# Altium integrated library TI Power Management Step-Down Regulator.IntLib: 559 symbols (part 20 of 35)
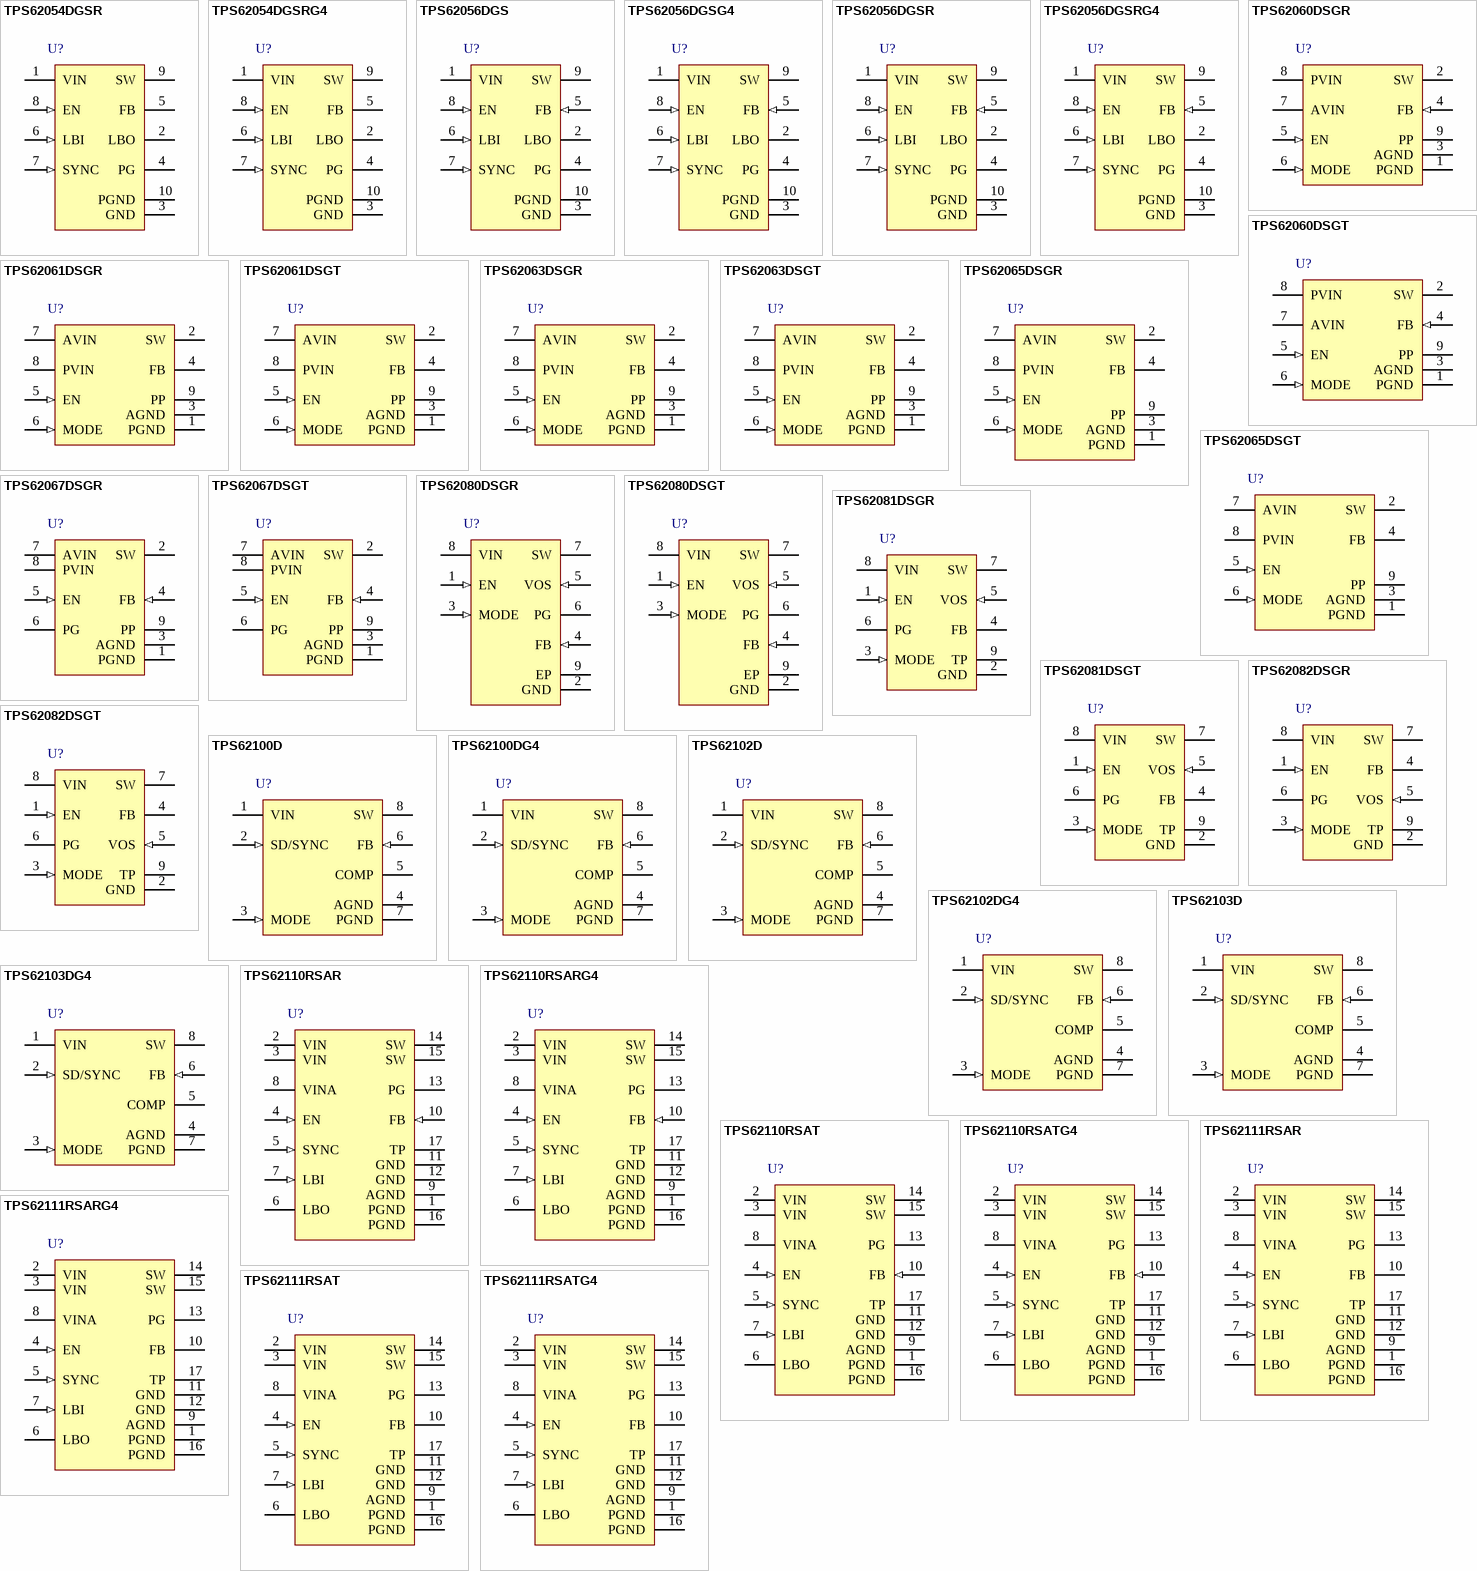
[diagram p38: symbols TPS62054DGSR to TPS62111RSATG4]

## TPS62110RSAT
designator U?
Buck Adjustable Regulator with 3.1 to 17 V Input and 1.2 to 16 V Output, -40 to 85 degC, 16-Pin QFN (RSA), Green (RoHS & no Sb/Br); Manufacturer: Texas Instruments; PartNumber: TPS62110RSAT; Duty Cycle(Max)(%): 100; Iout(Max)(A): 1.5; Iq(Typ)(mA): 0.02; Rating: Catalog; Regulated Outputs(#): 1; SubFamily: Step-Down Regulator; Switch Current Limit(Typ)(A): 2.4; Synchronous Rectification: TRUE; Vin(Max)(V): 17; Vin(Min)(V): 3.1; Vout(Max)(V): 16; Vout(Min)(V): 1.2; DatasheetVersion: SLVS585A; PackageVersion: revD, Jun-2011; PackageReference: RSA16-2700X2700TP; PackageDescription: 16-Pin Plastic Quad Flatpack No-Lead 0.65 mm Pitch; Supplier 1: Digi-Key; Supplier Part Number 1: 296-18580-2-ND; Supplier 2: Digi-Key; Supplier Part Number 2: 296-18580-1-ND; Supplier 3: Digi-Key; Supplier Part Number 3: 296-18580-6-ND; Supplier 4: Farnell; Supplier Part Number 4: 1412558; Supplier 5: Newark; Supplier Part Number 5: 52K2744; Supplier 6: Mouser; Supplier Part Number 6: 595-TPS62110RSAT; Eco-Plan: Green (RoHS & no Sb/Br); Topology: Buck; Mounting Technology: Surface Mount; Code_JEDEC: MO-220; ComponentLink1Description: Datasheet; ComponentLink1URL: http://www.ti.com/general/docs/lit/getliterature.tsp?genericPartNumber=TPS62110&fileType=pdf; ComponentLink2Description: Package Specification; ComponentLink2URL: http://www.ti.com/litv/pdf/mpqf145c; ComponentLink3Description: URL Link1; ComponentLink3URL: Samples URL:http://www.ti.com/product/tps62110#samples
footprint RSA16-2700X2700TP (QFN, 16-Leads, Body 4x4mm, Pitch 0.65mm, Thermal Pad 2.7x2.7mm, TI Recommended)
pins: 1 PGND (power) "Power ground. Connect all power grounds to this pin.", 2 VIN (power) "Supply voltage input (power stage).", 3 VIN (power) "Supply voltage input (power stage).", 4 EN (in) "Enable. A logic high enables the converter; logic low forces the device into shutdown mode reducing the supply current to less than 2 uA.", 5 SYNC (in) "Input for synchronization to external clock signal. Synchronizes the converter switching frequency to an external clock signal with CMOS level: SYNC = HIGH: Low-noise mode enabled, fixed frequency PWM operation is forced (See Datasheet)", 6 LBO (hiz) "Open-drain, low-battery output. This pin is pulled low if LBI is below its threshold.", 7 LBI (in) "Low-battery input.", 8 VINA (power) "Supply voltage input (support circuits).", 9 AGND (power) "Analog ground, connect to GND and PGND.", 10 FB (in) "Feedback pin for the fixed output voltage option. For the adjustable version, an external resistive divider is connected to this pin. The internal voltage divider is disabled for the adjustable version.", 11 GND (power) "Ground.", 12 GND (power) "Ground.", 13 PG (oc) "Power good comparator output. This is an open-drain output. A pullup resistor should be connected between PG and VOUT. The output goes active high when the output voltage is greater than 98.4% of the nominal value.", 14 SW (power) "Connect the inductor to this pin. This pin is the switch pin and connected to the drain of the internal power MOSFETS.", 15 SW (power) "Connect the inductor to this pin. This pin is the switch pin and connected to the drain of the internal power MOSFETS.", 16 PGND (power) "Power ground. Connect all power grounds to this pin.", 17 TP (power) "Connect to AGND."

## TPS62110RSATG4
designator U?
Buck Adjustable Regulator with 3.1 to 17 V Input and 1.2 to 16 V Output, -40 to 85 degC, 16-Pin QFN (RSA), Green (RoHS & no Sb/Br); Manufacturer: Texas Instruments; PartNumber: TPS62110RSATG4; Duty Cycle(Max)(%): 100; Iout(Max)(A): 1.5; Iq(Typ)(mA): 0.02; Rating: Catalog; Regulated Outputs(#): 1; SubFamily: Step-Down Regulator; Switch Current Limit(Typ)(A): 2.4; Synchronous Rectification: TRUE; Vin(Max)(V): 17; Vin(Min)(V): 3.1; Vout(Max)(V): 16; Vout(Min)(V): 1.2; DatasheetVersion: SLVS585A; PackageVersion: revD, Jun-2011; PackageReference: RSA16-2700X2700TP; PackageDescription: 16-Pin Plastic Quad Flatpack No-Lead 0.65 mm Pitch; Supplier 1: Digi-Key; Supplier Part Number 1: TPS62110RSATG4-ND; Supplier 2: Farnell; Supplier Part Number 2: 1180173; Supplier 3: Newark; Supplier Part Number 3: 26M4288; Supplier 4: Newark; Supplier Part Number 4: 61K1897; Supplier 5: Mouser; Supplier Part Number 5: 595-TPS62110RSATG4; Eco-Plan: Green (RoHS & no Sb/Br); Topology: Buck; Mounting Technology: Surface Mount; Code_JEDEC: MO-220; ComponentLink1Description: Datasheet; ComponentLink1URL: http://www.ti.com/general/docs/lit/getliterature.tsp?genericPartNumber=TPS62110&fileType=pdf; ComponentLink2Description: Package Specification; ComponentLink2URL: http://www.ti.com/litv/pdf/mpqf145c; ComponentLink3Description: URL Link1; ComponentLink3URL: Samples URL:http://www.ti.com/product/tps54611#samples
footprint RSA16-2700X2700TP (QFN, 16-Leads, Body 4x4mm, Pitch 0.65mm, Thermal Pad 2.7x2.7mm, TI Recommended)
pins: 1 PGND (power) "Power ground. Connect all power grounds to this pin.", 2 VIN (power) "Supply voltage input (power stage).", 3 VIN (power) "Supply voltage input (power stage).", 4 EN (in) "Enable. A logic high enables the converter; logic low forces the device into shutdown mode reducing the supply current to less than 2 uA.", 5 SYNC (in) "Input for synchronization to external clock signal. Synchronizes the converter switching frequency to an external clock signal with CMOS level: SYNC = HIGH: Low-noise mode enabled, fixed frequency PWM operation is forced (See Datasheet)", 6 LBO (hiz) "Open-drain, low-battery output. This pin is pulled low if LBI is below its threshold.", 7 LBI (in) "Low-battery input.", 8 VINA (power) "Supply voltage input (support circuits).", 9 AGND (power) "Analog ground, connect to GND and PGND.", 10 FB (in) "Feedback pin for the fixed output voltage option. For the adjustable version, an external resistive divider is connected to this pin. The internal voltage divider is disabled for the adjustable version.", 11 GND (power) "Ground.", 12 GND (power) "Ground.", 13 PG (oc) "Power good comparator output. This is an open-drain output. A pullup resistor should be connected between PG and VOUT. The output goes active high when the output voltage is greater than 98.4% of the nominal value.", 14 SW (power) "Connect the inductor to this pin. This pin is the switch pin and connected to the drain of the internal power MOSFETS.", 15 SW (power) "Connect the inductor to this pin. This pin is the switch pin and connected to the drain of the internal power MOSFETS.", 16 PGND (power) "Power ground. Connect all power grounds to this pin.", 17 TP (power) "Connect to AGND."

## TPS62111RSAR
designator U?
Buck Step Down Regulator with 3.1 to 17 V Input and 3.3 V Output, -40 to 85 degC, 16-Pin QFN (RSA), Green (RoHS & no Sb/Br); Manufacturer: Texas Instruments; PartNumber: TPS62111RSAR; Duty Cycle(Max)(%): 100; Iout(Max)(A): 1.5; Iq(Typ)(mA): 0.02; Preset Vout(V): 3.3; Rating: Catalog; Regulated Outputs(#): 1; SubFamily: Step-Down Regulator; Switch Current Limit(Typ)(A): 2.4; Synchronous Rectification: TRUE; Vin(Max)(V): 17; Vin(Min)(V): 3.1; DatasheetVersion: SLVS585A; PackageVersion: revD, Jun-2011; PackageReference: RSA16-2700X2700TP; PackageDescription: 16-Pin Plastic Quad Flatpack No-Lead 0.65 mm Pitch; Supplier 1: Digi-Key; Supplier Part Number 1: TPS62111RSAR-ND; Supplier 2: Newark; Supplier Part Number 2: 54K1738; Supplier 3: Mouser; Supplier Part Number 3: 595-TPS62111RSAR; Eco-Plan: Green (RoHS & no Sb/Br); Topology: Buck; Vout(Max)(V): 3.3; Vout(Min)(V): 3.3; Mounting Technology: Surface Mount; Code_JEDEC: MO-220; ComponentLink1Description: Datasheet; ComponentLink1URL: http://www.ti.com/general/docs/lit/getliterature.tsp?genericPartNumber=TPS62111&fileType=pdf; ComponentLink2Description: Package Specification; ComponentLink2URL: http://www.ti.com/litv/pdf/mpqf145c; ComponentLink3Description: URL Link1; ComponentLink3URL: Samples URL:http://www.ti.com/product/tps62111#samples
footprint RSA16-2700X2700TP (QFN, 16-Leads, Body 4x4mm, Pitch 0.65mm, Thermal Pad 2.7x2.7mm, TI Recommended)
pins: 1 PGND (power) "Power ground. Connect all power grounds to this pin.", 2 VIN (power) "Supply voltage input (power stage).", 3 VIN (power) "Supply voltage input (power stage).", 4 EN (in) "Enable. A logic high enables the converter; logic low forces the device into shutdown mode reducing the supply current to less than 2 µ A.", 5 SYNC (in) "Input for synchronization to external clock signal. Synchronizes the converter switching frequency to anexternal clock signal with CMOS level: SYNC = HIGH: Low-noise mode enabled, fixed frequency PWM operation is forced. (See Datasheet)", 6 LBO (hiz) "Open-drain, low-battery output. This pin is pulled low if LBI is below its threshold.", 7 LBI (in) "Low-battery input.", 8 VINA (power) "Supply voltage input (support circuits).", 9 AGND (power) "Analog ground, connect to GND and PGND.", 10 FB "Feedback pin for the fixed output voltage option. For the adjustable version, an external resistive divider is connected to this pin. The internal voltage divider is disabled for the adjustable version.", 11 GND (power) "Ground.", 12 GND (power) "Ground.", 13 PG (oc) "Power good comparator output. This is an open-drain output. A pullup resistor should be connected between PG and VOUT. The output goes active high when the output voltage is greater than 98.4% of the nominal value.", 14 SW (power) "Connect the inductor to this pin. This pin is the switch pin and connected to the drain of the internal power MOSFETS.", 15 SW (power) "Connect the inductor to this pin. This pin is the switch pin and connected to the drain of the internal power MOSFETS.", 16 PGND (power) "Power ground. Connect all power grounds to this pin.", 17 TP (power) "Connect to AGND."

## TPS62111RSARG4
designator U?
Buck Step Down Regulator with 3.1 to 17 V Input and 3.3 V Output, -40 to 85 degC, 16-Pin QFN (RSA), Green (RoHS & no Sb/Br); Manufacturer: Texas Instruments; PartNumber: TPS62111RSARG4; Duty Cycle(Max)(%): 100; Iout(Max)(A): 1.5; Iq(Typ)(mA): 0.02; Preset Vout(V): 3.3; Rating: Catalog; Regulated Outputs(#): 1; SubFamily: Step-Down Regulator; Switch Current Limit(Typ)(A): 2.4; Synchronous Rectification: TRUE; Vin(Max)(V): 17; Vin(Min)(V): 3.1; DatasheetVersion: SLVS585A; PackageVersion: revD, Jun-2011; PackageReference: RSA16-2700X2700TP; PackageDescription: 16-Pin Plastic Quad Flatpack No-Lead 0.65 mm Pitch; Supplier 1: Digi-Key; Supplier Part Number 1: TPS62111RSARG4-ND; Supplier 2: Newark; Supplier Part Number 2: 58K6948; Supplier 3: Mouser; Supplier Part Number 3: 595-TPS62111RSARG4; Eco-Plan: Green (RoHS & no Sb/Br); Topology: Buck; Vout(Max)(V): 3.3; Vout(Min)(V): 3.3; Mounting Technology: Surface Mount; Code_JEDEC: MO-220; ComponentLink1Description: Datasheet; ComponentLink1URL: http://www.ti.com/general/docs/lit/getliterature.tsp?genericPartNumber=TPS62111&fileType=pdf; ComponentLink2Description: Package Specification; ComponentLink2URL: http://www.ti.com/litv/pdf/mpqf145c; ComponentLink3Description: URL Link1; ComponentLink3URL: Samples URL:http://www.ti.com/product/tps62111#samples
footprint RSA16-2700X2700TP (QFN, 16-Leads, Body 4x4mm, Pitch 0.65mm, Thermal Pad 2.7x2.7mm, TI Recommended)
pins: 1 PGND (power) "Power ground. Connect all power grounds to this pin.", 2 VIN (power) "Supply voltage input (power stage).", 3 VIN (power) "Supply voltage input (power stage).", 4 EN (in) "Enable. A logic high enables the converter; logic low forces the device into shutdown mode reducing the supply current to less than 2 µ A.", 5 SYNC (in) "Input for synchronization to external clock signal. Synchronizes the converter switching frequency to anexternal clock signal with CMOS level: SYNC = HIGH: Low-noise mode enabled, fixed frequency PWM operation is forced. (See Datasheet)", 6 LBO (hiz) "Open-drain, low-battery output. This pin is pulled low if LBI is below its threshold.", 7 LBI (in) "Low-battery input.", 8 VINA (power) "Supply voltage input (support circuits).", 9 AGND (power) "Analog ground, connect to GND and PGND.", 10 FB "Feedback pin for the fixed output voltage option. For the adjustable version, an external resistive divider is connected to this pin. The internal voltage divider is disabled for the adjustable version.", 11 GND (power) "Ground.", 12 GND (power) "Ground.", 13 PG (oc) "Power good comparator output. This is an open-drain output. A pullup resistor should be connected between PG and VOUT. The output goes active high when the output voltage is greater than 98.4% of the nominal value.", 14 SW (power) "Connect the inductor to this pin. This pin is the switch pin and connected to the drain of the internal power MOSFETS.", 15 SW (power) "Connect the inductor to this pin. This pin is the switch pin and connected to the drain of the internal power MOSFETS.", 16 PGND (power) "Power ground. Connect all power grounds to this pin.", 17 TP (power) "Connect to AGND."

## TPS62111RSAT
designator U?
Buck Step Down Regulator with 3.1 to1 7 V Input and 3.3 V Output, -40 to 85 degC, 16-Pin QFN (RSA), Green (RoHS & no Sb/Br); Manufacturer: Texas Instruments; PartNumber: TPS62111RSAT; Duty Cycle(Max)(%): 100; Iout(Max)(A): 1.5; Iq(Typ)(mA): 0.02; Preset Vout(V): 3.3; Rating: Catalog; Regulated Outputs(#): 1; SubFamily: Step-Down Regulator; Switch Current Limit(Typ)(A): 2.4; Synchronous Rectification: TRUE; Vin(Max)(V): 17; Vin(Min)(V): 3.1; DatasheetVersion: SLVS585A; PackageVersion: revD, Jun-2011; PackageReference: RSA16-2700X2700TP; PackageDescription: 16-Pin Plastic Quad Flatpack No-Lead 0.65 mm Pitch; Supplier 1: Digi-Key; Supplier Part Number 1: 296-20670-2-ND; Supplier 2: Digi-Key; Supplier Part Number 2: 296-20670-1-ND; Supplier 3: Digi-Key; Supplier Part Number 3: 296-20670-6-ND; Supplier 4: Newark; Supplier Part Number 4: 54K1739; Supplier 5: Mouser; Supplier Part Number 5: 595-TPS62111RSAT; Eco-Plan: Green (RoHS & no Sb/Br); Topology: Buck; Vout(Max)(V): 3.3; Vout(Min)(V): 3.3; Mounting Technology: Surface Mount; Code_JEDEC: MO-220; ComponentLink1Description: Datasheet; ComponentLink1URL: http://www.ti.com/general/docs/lit/getliterature.tsp?genericPartNumber=TPS62111&fileType=pdf; ComponentLink2Description: Package Specification; ComponentLink2URL: http://www.ti.com/litv/pdf/mpqf145c; ComponentLink3Description: URL Link1; ComponentLink3URL: Samples URL:http://www.ti.com/product/tps62111#samples
footprint RSA16-2700X2700TP (QFN, 16-Leads, Body 4x4mm, Pitch 0.65mm, Thermal Pad 2.7x2.7mm, TI Recommended)
pins: 1 PGND (power) "Power ground. Connect all power grounds to this pin.", 2 VIN (power) "Supply voltage input (power stage).", 3 VIN (power) "Supply voltage input (power stage).", 4 EN (in) "Enable. A logic high enables the converter; logic low forces the device into shutdown mode reducing the supply current to less than 2 µ A.", 5 SYNC (in) "Input for synchronization to external clock signal. Synchronizes the converter switching frequency to anexternal clock signal with CMOS level: SYNC = HIGH: Low-noise mode enabled, fixed frequency PWM operation is forced. (See Datasheet)", 6 LBO (hiz) "Open-drain, low-battery output. This pin is pulled low if LBI is below its threshold.", 7 LBI (in) "Low-battery input.", 8 VINA (power) "Supply voltage input (support circuits).", 9 AGND (power) "Analog ground, connect to GND and PGND.", 10 FB "Feedback pin for the fixed output voltage option. For the adjustable version, an external resistive divider is connected to this pin. The internal voltage divider is disabled for the adjustable version.", 11 GND (power) "Ground.", 12 GND (power) "Ground.", 13 PG (oc) "Power good comparator output. This is an open-drain output. A pullup resistor should be connected between PG and VOUT. The output goes active high when the output voltage is greater than 98.4% of the nominal value.", 14 SW (power) "Connect the inductor to this pin. This pin is the switch pin and connected to the drain of the internal power MOSFETS.", 15 SW (power) "Connect the inductor to this pin. This pin is the switch pin and connected to the drain of the internal power MOSFETS.", 16 PGND (power) "Power ground. Connect all power grounds to this pin.", 17 TP (power) "Connect to AGND."

## TPS62111RSATG4
designator U?
Buck Step Down Regulator with 3.1 to 17 V Input and 3.3 V Output, -40 to 85 degC, 16-Pin QFN (RSA), Green (RoHS & no Sb/Br); Manufacturer: Texas Instruments; PartNumber: TPS62111RSATG4; Duty Cycle(Max)(%): 100; Iout(Max)(A): 1.5; Iq(Typ)(mA): 0.02; Preset Vout(V): 3.3; Rating: Catalog; Regulated Outputs(#): 1; SubFamily: Step-Down Regulator; Switch Current Limit(Typ)(A): 2.4; Synchronous Rectification: TRUE; Vin(Max)(V): 17; Vin(Min)(V): 3.1; DatasheetVersion: SLVS585A; PackageVersion: revD, Jun-2011; PackageReference: RSA16-2700X2700TP; PackageDescription: 16-Pin Plastic Quad Flatpack No-Lead 0.65 mm Pitch; Supplier 1: Digi-Key; Supplier Part Number 1: TPS62111RSATG4-ND; Supplier 2: Newark; Supplier Part Number 2: 58K6949; Supplier 3: Mouser; Supplier Part Number 3: 595-TPS62111RSATG4; Eco-Plan: Green (RoHS & no Sb/Br); Topology: Buck; Vout(Max)(V): 3.3; Vout(Min)(V): 3.3; Mounting Technology: Surface Mount; Code_JEDEC: MO-220; ComponentLink1Description: Datasheet; ComponentLink1URL: http://www.ti.com/general/docs/lit/getliterature.tsp?genericPartNumber=TPS62111&fileType=pdf; ComponentLink2Description: Package Specification; ComponentLink2URL: http://www.ti.com/litv/pdf/mpqf145c; ComponentLink3Description: URL Link1; ComponentLink3URL: Samples URL:http://www.ti.com/product/tps54611#samples
footprint RSA16-2700X2700TP (QFN, 16-Leads, Body 4x4mm, Pitch 0.65mm, Thermal Pad 2.7x2.7mm, TI Recommended)
pins: 1 PGND (power) "Power ground. Connect all power grounds to this pin.", 2 VIN (power) "Supply voltage input (power stage).", 3 VIN (power) "Supply voltage input (power stage).", 4 EN (in) "Enable. A logic high enables the converter; logic low forces the device into shutdown mode reducing the supply current to less than 2 µ A.", 5 SYNC (in) "Input for synchronization to external clock signal. Synchronizes the converter switching frequency to anexternal clock signal with CMOS level: SYNC = HIGH: Low-noise mode enabled, fixed frequency PWM operation is forced. (See Datasheet)", 6 LBO (hiz) "Open-drain, low-battery output. This pin is pulled low if LBI is below its threshold.", 7 LBI (in) "Low-battery input.", 8 VINA (power) "Supply voltage input (support circuits).", 9 AGND (power) "Analog ground, connect to GND and PGND.", 10 FB "Feedback pin for the fixed output voltage option. For the adjustable version, an external resistive divider is connected to this pin. The internal voltage divider is disabled for the adjustable version.", 11 GND (power) "Ground.", 12 GND (power) "Ground.", 13 PG (oc) "Power good comparator output. This is an open-drain output. A pullup resistor should be connected between PG and VOUT. The output goes active high when the output voltage is greater than 98.4% of the nominal value.", 14 SW (power) "Connect the inductor to this pin. This pin is the switch pin and connected to the drain of the internal power MOSFETS.", 15 SW (power) "Connect the inductor to this pin. This pin is the switch pin and connected to the drain of the internal power MOSFETS.", 16 PGND (power) "Power ground. Connect all power grounds to this pin.", 17 TP (power) "Connect to AGND."

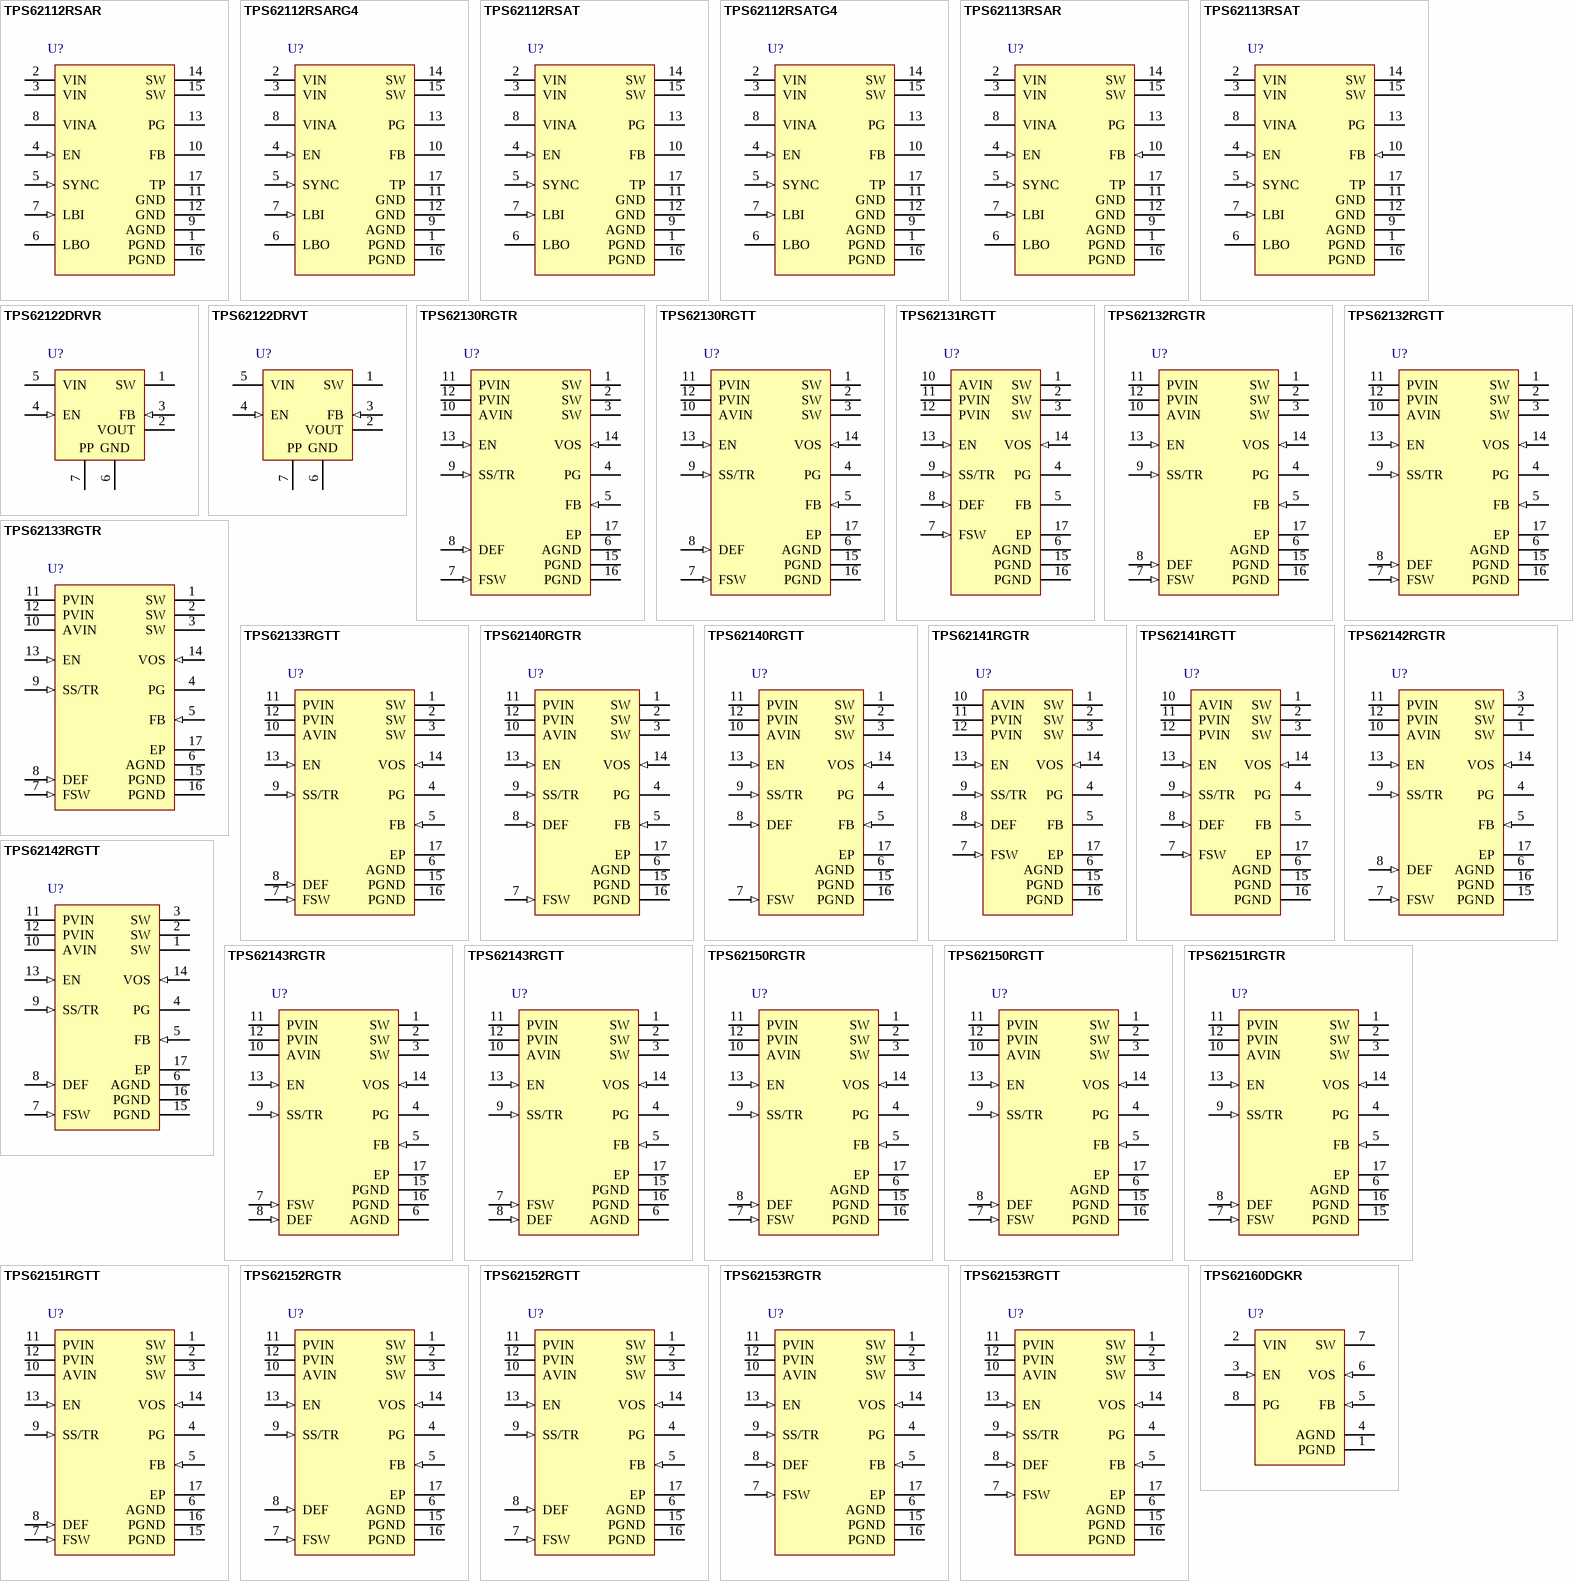
[diagram p10: symbols TPS62112RSAR to TPS62160DGKR]

## TPS62112RSAR
designator U?
Buck Step Down Regulator with 3.1 to 17 V Input and 5 V Output, -40 to 85 degC, 16-Pin QFN (RSA), Green (RoHS & no Sb/Br); Manufacturer: Texas Instruments; PartNumber: TPS62112RSAR; Duty Cycle(Max)(%): 100; Iout(Max)(A): 1.5; Iq(Typ)(mA): 0.02; Preset Vout(V): 5; Rating: Catalog; Regulated Outputs(#): 1; SubFamily: Step-Down Regulator; Switch Current Limit(Typ)(A): 2.4; Synchronous Rectification: TRUE; Vin(Max)(V): 17; Vin(Min)(V): 3.1; DatasheetVersion: SLVS585A; PackageVersion: revD, Jun-2011; PackageReference: RSA16-2700X2700TP; PackageDescription: 16-Pin Plastic Quad Flatpack No-Lead 0.65 mm Pitch; Supplier 1: Digi-Key; Supplier Part Number 1: TPS62112RSAR-ND; Supplier 2: Newark; Supplier Part Number 2: 54K1740; Supplier 3: Mouser; Supplier Part Number 3: 595-TPS62112RSAR; Eco-Plan: Green (RoHS & no Sb/Br); Topology: Buck; Vout(Max)(V): 5; Vout(Min)(V): 5; Mounting Technology: Surface Mount; Code_JEDEC: MO-220; ComponentLink1Description: Datasheet; ComponentLink1URL: http://www.ti.com/general/docs/lit/getliterature.tsp?genericPartNumber=TPS62112&fileType=pdf; ComponentLink2Description: Package Specification; ComponentLink2URL: http://www.ti.com/litv/pdf/mpqf145c; ComponentLink3Description: URL Link1; ComponentLink3URL: Samples URL:http://www.ti.com/product/tps62112#samples
footprint RSA16-2700X2700TP (QFN, 16-Leads, Body 4x4mm, Pitch 0.65mm, Thermal Pad 2.7x2.7mm, TI Recommended)
pins: 1 PGND (power) "Power ground. Connect all power grounds to this pin.", 2 VIN (power) "Supply voltage input (power stage)", 3 VIN (power) "Supply voltage input (power stage)", 4 EN (in) "Enable. A logic high enables the converter; logic low forces the device into shutdown mode reducing the supply current to less than 2 uA.", 5 SYNC (in) "Input for synchronization to external clock signal. Synchronizes the converter switching frequency to an external clock signal with CMOS level: SYNC = HIGH: Low-noise mode enabled, fixed frequency PWM operation is forced (See Datasheet)", 6 LBO (hiz) "Open-drain, low-battery output. This pin is pulled low if LBI is below its threshold.", 7 LBI (in) "Low-battery input", 8 VINA (power) "Supply voltage input (support circuits)", 9 AGND (power) "Analog ground, connect to GND and PGND", 10 FB "Feedback pin for the fixed output voltage option. For the adjustable version, an external resistive divider is connected to this pin. The internal voltage divider is disabled for the adjustable version.", 11 GND (power) "Ground", 12 GND (power) "Ground", 13 PG (oc) "Power good comparator output. This is an open-drain output. A pullup resistor should be connected between PG and VOUT. The output goes active high when the output voltage is greater than 98.4% of the nominal value.", 14 SW (power) "Connect the inductor to this pin. This pin is the switch pin and connected to the drain of the internal power MOSFETS.", 15 SW (power) "Connect the inductor to this pin. This pin is the switch pin and connected to the drain of the internal power MOSFETS.", 16 PGND (power) "Power ground. Connect all power grounds to this pin.", 17 TP (power) "Connect to AGND"

## TPS62112RSARG4
designator U?
Buck Step Down Regulator with 3.1 to 17 V Input and 5 V Output, -40 to 85 degC, 16-Pin QFN (RSA), Green (RoHS & no Sb/Br); Manufacturer: Texas Instruments; PartNumber: TPS62112RSARG4; Duty Cycle(Max)(%): 100; Iout(Max)(A): 1.5; Iq(Typ)(mA): 0.02; Preset Vout(V): 5; Rating: Catalog; Regulated Outputs(#): 1; SubFamily: Step-Down Regulator; Switch Current Limit(Typ)(A): 2.4; Synchronous Rectification: TRUE; Vin(Max)(V): 17; Vin(Min)(V): 3.1; DatasheetVersion: SLVS585A; PackageVersion: revD, Jun-2011; PackageReference: RSA16-2700X2700TP; PackageDescription: 16-Pin Plastic Quad Flatpack No-Lead 0.65 mm Pitch; Supplier 1: Digi-Key; Supplier Part Number 1: TPS62112RSARG4-ND; Supplier 2: Newark; Supplier Part Number 2: 58K6950; Supplier 3: Mouser; Supplier Part Number 3: 595-TPS62112RSARG4; Eco-Plan: Green (RoHS & no Sb/Br); Topology: Buck; Vout(Max)(V): 5; Vout(Min)(V): 5; Mounting Technology: Surface Mount; Code_JEDEC: MO-220; ComponentLink1Description: Datasheet; ComponentLink1URL: http://www.ti.com/general/docs/lit/getliterature.tsp?genericPartNumber=TPS62112&fileType=pdf; ComponentLink2Description: Package Specification; ComponentLink2URL: http://www.ti.com/litv/pdf/mpqf145c; ComponentLink3Description: URL Link1; ComponentLink3URL: Samples URL:http://www.ti.com/product/tps62112#samples
footprint RSA16-2700X2700TP (QFN, 16-Leads, Body 4x4mm, Pitch 0.65mm, Thermal Pad 2.7x2.7mm, TI Recommended)
pins: 1 PGND (power) "Power ground. Connect all power grounds to this pin.", 2 VIN (power) "Supply voltage input (power stage)", 3 VIN (power) "Supply voltage input (power stage)", 4 EN (in) "Enable. A logic high enables the converter; logic low forces the device into shutdown mode reducing the supply current to less than 2 uA.", 5 SYNC (in) "Input for synchronization to external clock signal. Synchronizes the converter switching frequency to an external clock signal with CMOS level: SYNC = HIGH: Low-noise mode enabled, fixed frequency PWM operation is forced (See Datasheet)", 6 LBO (hiz) "Open-drain, low-battery output. This pin is pulled low if LBI is below its threshold.", 7 LBI (in) "Low-battery input", 8 VINA (power) "Supply voltage input (support circuits)", 9 AGND (power) "Analog ground, connect to GND and PGND", 10 FB "Feedback pin for the fixed output voltage option. For the adjustable version, an external resistive divider is connected to this pin. The internal voltage divider is disabled for the adjustable version.", 11 GND (power) "Ground", 12 GND (power) "Ground", 13 PG (oc) "Power good comparator output. This is an open-drain output. A pullup resistor should be connected between PG and VOUT. The output goes active high when the output voltage is greater than 98.4% of the nominal value.", 14 SW (power) "Connect the inductor to this pin. This pin is the switch pin and connected to the drain of the internal power MOSFETS.", 15 SW (power) "Connect the inductor to this pin. This pin is the switch pin and connected to the drain of the internal power MOSFETS.", 16 PGND (power) "Power ground. Connect all power grounds to this pin.", 17 TP (power) "Connect to AGND"

## TPS62112RSAT
designator U?
Buck Step Down Regulator with 3.1 to 17 V Input and 5 V Output, -40 to 85 degC, 16-Pin QFN (RSA), Green (RoHS & no Sb/Br); Manufacturer: Texas Instruments; PartNumber: TPS62112RSAT; Duty Cycle(Max)(%): 100; Iout(Max)(A): 1.5; Iq(Typ)(mA): 0.02; Preset Vout(V): 5; Rating: Catalog; Regulated Outputs(#): 1; SubFamily: Step-Down Regulator; Switch Current Limit(Typ)(A): 2.4; Synchronous Rectification: TRUE; Vin(Max)(V): 17; Vin(Min)(V): 3.1; DatasheetVersion: SLVS585A; PackageVersion: revD, Jun-2011; PackageReference: RSA16-2700X2700TP; PackageDescription: 16-Pin Plastic Quad Flatpack No-Lead 0.65 mm Pitch; Supplier 1: Digi-Key; Supplier Part Number 1: 296-19717-2-ND; Supplier 2: Digi-Key; Supplier Part Number 2: 296-19717-1-ND; Supplier 3: Digi-Key; Supplier Part Number 3: 296-19717-6-ND; Supplier 4: Newark; Supplier Part Number 4: 54K1741; Supplier 5: Mouser; Supplier Part Number 5: 595-TPS62112RSAT; Eco-Plan: Green (RoHS & no Sb/Br); Topology: Buck; Vout(Max)(V): 5; Vout(Min)(V): 5; Mounting Technology: Surface Mount; Code_JEDEC: MO-220; ComponentLink1Description: Datasheet; ComponentLink1URL: http://www.ti.com/general/docs/lit/getliterature.tsp?genericPartNumber=TPS62112&fileType=pdf; ComponentLink2Description: Package Specification; ComponentLink2URL: http://www.ti.com/litv/pdf/mpqf145c; ComponentLink3Description: URL Link1; ComponentLink3URL: Samples URL:http://www.ti.com/product/tps62112#samples
footprint RSA16-2700X2700TP (QFN, 16-Leads, Body 4x4mm, Pitch 0.65mm, Thermal Pad 2.7x2.7mm, TI Recommended)
pins: 1 PGND (power) "Power ground. Connect all power grounds to this pin.", 2 VIN (power) "Supply voltage input (power stage)", 3 VIN (power) "Supply voltage input (power stage)", 4 EN (in) "Enable. A logic high enables the converter; logic low forces the device into shutdown mode reducing the supply current to less than 2 uA.", 5 SYNC (in) "Input for synchronization to external clock signal. Synchronizes the converter switching frequency to an external clock signal with CMOS level: SYNC = HIGH: Low-noise mode enabled, fixed frequency PWM operation is forced (See Datasheet)", 6 LBO (hiz) "Open-drain, low-battery output. This pin is pulled low if LBI is below its threshold.", 7 LBI (in) "Low-battery input", 8 VINA (power) "Supply voltage input (support circuits)", 9 AGND (power) "Analog ground, connect to GND and PGND", 10 FB "Feedback pin for the fixed output voltage option. For the adjustable version, an external resistive divider is connected to this pin. The internal voltage divider is disabled for the adjustable version.", 11 GND (power) "Ground", 12 GND (power) "Ground", 13 PG (oc) "Power good comparator output. This is an open-drain output. A pullup resistor should be connected between PG and VOUT. The output goes active high when the output voltage is greater than 98.4% of the nominal value.", 14 SW (power) "Connect the inductor to this pin. This pin is the switch pin and connected to the drain of the internal power MOSFETS.", 15 SW (power) "Connect the inductor to this pin. This pin is the switch pin and connected to the drain of the internal power MOSFETS.", 16 PGND (power) "Power ground. Connect all power grounds to this pin.", 17 TP (power) "Connect to AGND"

## TPS62112RSATG4
designator U?
Buck Step Down Regulator with 3.1 to 17 V Input and 5 V Output, -40 to 85 degC, 16-Pin QFN (RSA), Green (RoHS & no Sb/Br); Manufacturer: Texas Instruments; PartNumber: TPS62112RSATG4; Duty Cycle(Max)(%): 100; Iout(Max)(A): 1.5; Iq(Typ)(mA): 0.02; Preset Vout(V): 5; Rating: Catalog; Regulated Outputs(#): 1; SubFamily: Step-Down Regulator; Switch Current Limit(Typ)(A): 2.4; Synchronous Rectification: TRUE; Vin(Max)(V): 17; Vin(Min)(V): 3.1; DatasheetVersion: SLVS585A; PackageVersion: revD, Jun-2011; PackageReference: RSA16-2700X2700TP; PackageDescription: 16-Pin Plastic Quad Flatpack No-Lead 0.65 mm Pitch; Supplier 1: Digi-Key; Supplier Part Number 1: TPS62112RSATG4-ND; Supplier 2: Newark; Supplier Part Number 2: 58K6951; Supplier 3: Mouser; Supplier Part Number 3: 595-TPS62112RSATG4; Eco-Plan: Green (RoHS & no Sb/Br); Topology: Buck; Vout(Max)(V): 5; Vout(Min)(V): 5; Mounting Technology: Surface Mount; Code_JEDEC: MO-220; ComponentLink1Description: Datasheet; ComponentLink1URL: http://www.ti.com/general/docs/lit/getliterature.tsp?genericPartNumber=TPS62112&fileType=pdf; ComponentLink2Description: Package Specification; ComponentLink2URL: http://www.ti.com/litv/pdf/mpqf145c; ComponentLink3Description: URL Link1; ComponentLink3URL: Samples URL:http://www.ti.com/product/tps62112#samples
footprint RSA16-2700X2700TP (QFN, 16-Leads, Body 4x4mm, Pitch 0.65mm, Thermal Pad 2.7x2.7mm, TI Recommended)
pins: 1 PGND (power) "Power ground. Connect all power grounds to this pin.", 2 VIN (power) "Supply voltage input (power stage)", 3 VIN (power) "Supply voltage input (power stage)", 4 EN (in) "Enable. A logic high enables the converter; logic low forces the device into shutdown mode reducing the supply current to less than 2 uA.", 5 SYNC (in) "Input for synchronization to external clock signal. Synchronizes the converter switching frequency to an external clock signal with CMOS level: SYNC = HIGH: Low-noise mode enabled, fixed frequency PWM operation is forced (See Datasheet)", 6 LBO (hiz) "Open-drain, low-battery output. This pin is pulled low if LBI is below its threshold.", 7 LBI (in) "Low-battery input", 8 VINA (power) "Supply voltage input (support circuits)", 9 AGND (power) "Analog ground, connect to GND and PGND", 10 FB "Feedback pin for the fixed output voltage option. For the adjustable version, an external resistive divider is connected to this pin. The internal voltage divider is disabled for the adjustable version.", 11 GND (power) "Ground", 12 GND (power) "Ground", 13 PG (oc) "Power good comparator output. This is an open-drain output. A pullup resistor should be connected between PG and VOUT. The output goes active high when the output voltage is greater than 98.4% of the nominal value.", 14 SW (power) "Connect the inductor to this pin. This pin is the switch pin and connected to the drain of the internal power MOSFETS.", 15 SW (power) "Connect the inductor to this pin. This pin is the switch pin and connected to the drain of the internal power MOSFETS.", 16 PGND (power) "Power ground. Connect all power grounds to this pin.", 17 TP (power) "Connect to AGND"

## TPS62113RSAR
designator U?
Buck Step Down Regulator with 3.1 to 17 V Input and 1.2 to 16 V Output, -40 to 85 degC, 16-Pin QFN (RSA), Green (RoHS & no Sb/Br); Manufacturer: Texas Instruments; PartNumber: TPS62113RSAR; Duty Cycle(Max)(%): 100; Iout(Max)(A): 1.5; Iq(Typ)(mA): 0.02; Rating: Catalog; Regulated Outputs(#): 1; SubFamily: Step-Down Regulator; Switch Current Limit(Typ)(A): 2.4; Synchronous Rectification: TRUE; Vin(Max)(V): 17; Vin(Min)(V): 3.1; Vout(Max)(V): 16; Vout(Min)(V): 1.2; DatasheetVersion: SLVS585A; PackageVersion: revD, Jun-2011; PackageReference: RSA16-2700X2700TP; PackageDescription: 16-Pin Plastic Quad Flatpack No-Lead 0.65 mm Pitch; Supplier 1: Digi-Key; Supplier Part Number 1: 296-24199-2-ND; Supplier 2: Digi-Key; Supplier Part Number 2: 296-24199-1-ND; Supplier 3: Digi-Key; Supplier Part Number 3: 296-24199-6-ND; Supplier 4: Newark; Supplier Part Number 4: 09R6672; Supplier 5: Mouser; Supplier Part Number 5: 595-TPS62113RSAR; Eco-Plan: Green (RoHS & no Sb/Br); Topology: Buck; Mounting Technology: Surface Mount; Code_JEDEC: MO-220; ComponentLink1Description: Datasheet; ComponentLink1URL: http://www.ti.com/general/docs/lit/getliterature.tsp?genericPartNumber=TPS62113&fileType=pdf; ComponentLink2Description: Package Specification; ComponentLink2URL: http://www.ti.com/litv/pdf/mpqf145c; ComponentLink3Description: URL Link1; ComponentLink3URL: Samples URL:http://www.ti.com/product/tps62113#samples
footprint RSA16-2700X2700TP (QFN, 16-Leads, Body 4x4mm, Pitch 0.65mm, Thermal Pad 2.7x2.7mm, TI Recommended)
pins: 1 PGND (power) "Power ground. Connect all power grounds to this pin.", 2 VIN (power) "Supply voltage input (power stage)", 3 VIN (power) "Supply voltage input (power stage)", 4 EN (in) "Enable. A logic high enables the converter; logic low forces the device into shutdown mode reducing the supply current to less than 2 uA.", 5 SYNC (in) "Input for synchronization to external clock signal. Synchronizes the converter switching frequency to an external clock signal with CMOS level:SYNC = HIGH: Low-noise mode enabled, fixed frequency PWM operation is forced SYNC (See Datasheet)", 6 LBO (hiz) "Open-drain, low-battery output. This pin is pulled low if LBI is below its threshold.", 7 LBI (in) "Low-battery input", 8 VINA (power) "Supply voltage input (support circuits)", 9 AGND (power) "Analog ground, connect to GND and PGND", 10 FB (in) "Feedback pin for the fixed output voltage option. For the adjustable version, an external resistive divider is connected to this pin. The internal voltage divider is disabled for the adjustable version.", 11 GND (power) "Ground", 12 GND (power) "Ground", 13 PG (oc) "Power good comparator output. This is an open-drain output. A pullup resistor should be connected between PG and VOUT. The output goes active high when the output voltage is greater than 98.4% of the nominal value.", 14 SW (power) "Connect the inductor to this pin. This pin is the switch pin and connected to the drain of the internal power MOSFETS.", 15 SW (power) "Connect the inductor to this pin. This pin is the switch pin and connected to the drain of the internal power MOSFETS.", 16 PGND (power) "Power ground. Connect all power grounds to this pin.", 17 TP (power) "Connect to AGND"

## TPS62113RSAT
designator U?
Buck Step Down Regulator with 3.1 to 17 V Input and 1.2 to 16 V Output, -40 to 85 degC, 16-Pin QFN (RSA), Green (RoHS & no Sb/Br); Manufacturer: Texas Instruments; PartNumber: TPS62113RSAT; Duty Cycle(Max)(%): 100; Iout(Max)(A): 1.5; Iq(Typ)(mA): 0.02; Rating: Catalog; Regulated Outputs(#): 1; SubFamily: Step-Down Regulator; Switch Current Limit(Typ)(A): 2.4; Synchronous Rectification: TRUE; Vin(Max)(V): 17; Vin(Min)(V): 3.1; Vout(Max)(V): 16; Vout(Min)(V): 1.2; DatasheetVersion: SLVS585A; PackageVersion: revD, Jun-2011; PackageReference: RSA16-2700X2700TP; PackageDescription: 16-Pin Plastic Quad Flatpack No-Lead 0.65 mm Pitch; Supplier 1: Digi-Key; Supplier Part Number 1: 296-27025-2-ND; Supplier 2: Digi-Key; Supplier Part Number 2: 296-27025-1-ND; Supplier 3: Digi-Key; Supplier Part Number 3: 296-27025-6-ND; Supplier 4: Farnell; Supplier Part Number 4: 1710824; Supplier 5: Newark; Supplier Part Number 5: 71P5323; Supplier 6: Mouser; Supplier Part Number 6: 595-TPS62113RSAT; Eco-Plan: Green (RoHS & no Sb/Br); Topology: Buck; Mounting Technology: Surface Mount; Code_JEDEC: MO-220; ComponentLink1Description: Datasheet; ComponentLink1URL: http://www.ti.com/general/docs/lit/getliterature.tsp?genericPartNumber=TPS62113&fileType=pdf; ComponentLink2Description: Package Specification; ComponentLink2URL: http://www.ti.com/litv/pdf/mpqf145c; ComponentLink3Description: URL Link1; ComponentLink3URL: Samples URL:http://www.ti.com/product/tps54611#samples
footprint RSA16-2700X2700TP (QFN, 16-Leads, Body 4x4mm, Pitch 0.65mm, Thermal Pad 2.7x2.7mm, TI Recommended)
pins: 1 PGND (power) "Power ground. Connect all power grounds to this pin.", 2 VIN (power) "Supply voltage input (power stage)", 3 VIN (power) "Supply voltage input (power stage)", 4 EN (in) "Enable. A logic high enables the converter; logic low forces the device into shutdown mode reducing the supply current to less than 2 uA.", 5 SYNC (in) "Input for synchronization to external clock signal. Synchronizes the converter switching frequency to an external clock signal with CMOS level:SYNC = HIGH: Low-noise mode enabled, fixed frequency PWM operation is forced SYNC (See Datasheet)", 6 LBO (hiz) "Open-drain, low-battery output. This pin is pulled low if LBI is below its threshold.", 7 LBI (in) "Low-battery input", 8 VINA (power) "Supply voltage input (support circuits)", 9 AGND (power) "Analog ground, connect to GND and PGND", 10 FB (in) "Feedback pin for the fixed output voltage option. For the adjustable version, an external resistive divider is connected to this pin. The internal voltage divider is disabled for the adjustable version.", 11 GND (power) "Ground", 12 GND (power) "Ground", 13 PG (oc) "Power good comparator output. This is an open-drain output. A pullup resistor should be connected between PG and VOUT. The output goes active high when the output voltage is greater than 98.4% of the nominal value.", 14 SW (power) "Connect the inductor to this pin. This pin is the switch pin and connected to the drain of the internal power MOSFETS.", 15 SW (power) "Connect the inductor to this pin. This pin is the switch pin and connected to the drain of the internal power MOSFETS.", 16 PGND (power) "Power ground. Connect all power grounds to this pin.", 17 TP (power) "Connect to AGND"

## TPS62122DRVR
designator U?
Buck Step Down Regulator with 2 to 15 V Input and 1.2 to 5.5 V Output, -40 to 85 degC, 6-Pin SON (DRV), Green (RoHS & no Sb/Br); Manufacturer: Texas Instruments; PartNumber: TPS62122DRVR; Duty Cycle(Max)(%): 100; Iout(Max)(A): 0.075; Iq(Typ)(mA): 0.011; Rating: Catalog; Regulated Outputs(#): 1; SubFamily: Step-Down Regulator; Switch Current Limit(Typ)(A): 0.25; Synchronous Rectification: TRUE; Vin(Max)(V): 15; Vin(Min)(V): 2; Vout(Max)(V): 5.5; Vout(Min)(V): 1.2; DatasheetVersion: SLVSAD5; PackageVersion: revE, Oct-2010; PackageReference: DRV6-1600X1000TP; PackageDescription: 6-Pin Plastic Small Outline No-Lead, 2 x 2 x 0.8 mm Body, 0.65 mm Pitch, Exposed Pad; Supplier 1: Digi-Key; Supplier Part Number 1: 296-27695-2-ND; Supplier 2: Digi-Key; Supplier Part Number 2: 296-27695-1-ND; Supplier 3: Digi-Key; Supplier Part Number 3: 296-27695-6-ND; Supplier 4: Newark; Supplier Part Number 4: 84R0674; Supplier 5: Mouser; Supplier Part Number 5: 595-TPS62122DRVR; Eco-Plan: Green (RoHS & no Sb/Br); Topology: Buck; Mounting Technology: Surface Mount; ComponentLink1Description: Datasheet; ComponentLink1URL: http://www.ti.com/general/docs/lit/getliterature.tsp?genericPartNumber=TPS62122&fileType=pdf; ComponentLink2Description: Package Specification; ComponentLink2URL: http://www.ti.com/litv/pdf/mpds216d; ComponentLink3Description: URL Link1; ComponentLink3URL: Samples URL:http://www.ti.com/product/tps62122#samples
footprint DRV6-1600X1000TP (SON, 6-Leads, Body 2x2mm, Pitch 0.65mm, Thermal Pad 1.6x1mm, TI Recommended)
pins: 1 SW (power) "This is the switch pin and is connected to the internal MOSFET switches. Connect the inductor tothis terminal. Do not tie this pin to VIN, VOUT or GND.", 2 VOUT (power) "This pin must be connected to the output capacitor.", 3 FB (in) "This is the feedback pin for the regulator. Connect external resistor divider to this pin", 4 EN (in) "Pulling this pin to high activates the device. Low level shuts it down. This pin must be terminated.", 5 VIN (power) "VIN power supply pin.", 6 GND (power) "GND supply pin.", 7 EP (power) "Exposed Thermal Pad available only in DRV package option. This pad must be connected to GND."
text: PP

## TPS62122DRVT
designator U?
Buck Step Down Regulator with 2 to 15 V Input and 1.2 to 5.5 V Output, -40 to 85 degC, 6-Pin SON (DRV), Green (RoHS & no Sb/Br); Manufacturer: Texas Instruments; PartNumber: TPS62122DRVT; Duty Cycle(Max)(%): 100; Iout(Max)(A): 0.075; Iq(Typ)(mA): 0.011; Rating: Catalog; Regulated Outputs(#): 1; SubFamily: Step-Down Regulator; Switch Current Limit(Typ)(A): 0.25; Synchronous Rectification: TRUE; Vin(Max)(V): 15; Vin(Min)(V): 2; Vout(Max)(V): 5.5; Vout(Min)(V): 1.2; DatasheetVersion: SLVSAD5; PackageVersion: revE, Oct-2010; PackageReference: DRV6-1600X1000TP; PackageDescription: 6-Pin Plastic Small Outline No-Lead, 2 x 2 x 0.8 mm Body, 0.65 mm Pitch, Exposed Pad; Supplier 1: Digi-Key; Supplier Part Number 1: 296-27829-2-ND; Supplier 2: Digi-Key; Supplier Part Number 2: 296-27829-1-ND; Supplier 3: Digi-Key; Supplier Part Number 3: 296-27829-6-ND; Supplier 4: Farnell; Supplier Part Number 4: 1863098; Supplier 5: Newark; Supplier Part Number 5: 91R2095; Supplier 6: Mouser; Supplier Part Number 6: 595-TPS62122DRVT; Eco-Plan: Green (RoHS & no Sb/Br); Topology: Buck; Mounting Technology: Surface Mount; ComponentLink1Description: Datasheet; ComponentLink1URL: http://www.ti.com/general/docs/lit/getliterature.tsp?genericPartNumber=TPS62122&fileType=pdf; ComponentLink2Description: Package Specification; ComponentLink2URL: http://www.ti.com/litv/pdf/mpds216d; ComponentLink3Description: URL Link1; ComponentLink3URL: Samples URL:http://www.ti.com/product/tps54611#samples
footprint DRV6-1600X1000TP (SON, 6-Leads, Body 2x2mm, Pitch 0.65mm, Thermal Pad 1.6x1mm, TI Recommended)
pins: 1 SW (power) "This is the switch pin and is connected to the internal MOSFET switches. Connect the inductor tothis terminal. Do not tie this pin to VIN, VOUT or GND.", 2 VOUT (power) "This pin must be connected to the output capacitor.", 3 FB (in) "This is the feedback pin for the regulator. Connect external resistor divider to this pin", 4 EN (in) "Pulling this pin to high activates the device. Low level shuts it down. This pin must be terminated.", 5 VIN (power) "VIN power supply pin.", 6 GND (power) "GND supply pin.", 7 EP (power) "Exposed Thermal Pad available only in DRV package option. This pad must be connected to GND."
text: PP

## TPS62130RGTR
designator U?
Buck Step Down Regulator with 3 to 17 V Input and 0.9 to 6 V Output, -40 to 85 degC, 16-Pin QFN (RGT), Green (RoHS & no Sb/Br); Manufacturer: Texas Instruments; PartNumber: TPS62130RGTR; Duty Cycle(Max)(%): 100; Iout(Max)(A): 3; Iq(Typ)(mA): 0.017; Rating: Catalog; Regulated Outputs(#): 1; SubFamily: Step-Down Regulator; Switch Current Limit(Typ)(A): 4.2; Synchronous Rectification: TRUE; Vin(Max)(V): 17; Vout(Max)(V): 6; Vout(Min)(V): 0.9; DatasheetVersion: SLVSAG7; PackageVersion: revH, Oct-2011; PackageReference: RGT16-1700X1700TP; PackageDescription: 16-Pin Plastic Quad Flat No-Lead, 3 x 3 mm Body, 0.5 mm Pitch, 1.7 x 1.7 mm Exposed Pad; Supplier 1: Digi-Key; Supplier Part Number 1: TPS62130RGTR-ND; Supplier 2: Newark; Supplier Part Number 2: 74T5526; Supplier 3: Mouser; Supplier Part Number 3: 595-TPS62130RGTR; Eco-Plan: Green (RoHS & no Sb/Br); Topology: Buck; Vin(Min)(V): 3; Mounting Technology: Surface Mount; Code_JEDEC: MO-220; ComponentLink1Description: Datasheet; ComponentLink1URL: http://www.ti.com/general/docs/lit/getliterature.tsp?genericPartNumber=TPS62130&fileType=pdf; ComponentLink2Description: Package Specification; ComponentLink2URL: http://www.ti.com/litv/pdf/mpqf119g; ComponentLink3Description: URL Link1; ComponentLink3URL: Samples URL:http://www.ti.com/product/tps62130#samples
footprint RGT16-1700X1700TP (QFN, 16-Leads, Body 3x3mm, Pitch 0.5mm, Thermal Pad 1.7x1.7mm, TI Recommended)
pins: 1 SW (power) "Switch node, which is connected to the internal MOSFET switches. Connect inductor between SW and output capacitor", 2 SW (power) "Switch node, which is connected to the internal MOSFET switches. Connect inductor between SW and output capacitor", 3 SW (power) "Switch node, which is connected to the internal MOSFET switches. Connect inductor between SW and output capacitor", 4 PG (hiz) "Output power good (High = VOUT ready, Low = VOUT below nominal regulation) ; open drain (requires pull-up resistor; goes high impedance, when device is switched off)", 5 FB (in) "Voltage feedback of adjustable version. Connect resistive voltage divider to this pin. It is recommended to connect FB to AGND on fixed output voltage versions for improved thermal performance", 6 AGND (power) "Analog Ground", 7 FSW (in) "Switching Frequency Select (Low ˜ 2.5MHz, High ˜ 1.25MHz for typical operation)", 8 DEF (in) "Output Voltage Scaling (Low = nominal, High = nominal + 5%)", 9 SS/TR (in) "Soft-Start/Tracking Pin .An external capacitor connected to this pin sets the internal voltage reference rise time .It can be used for tracking and sequencing.", 10 AVIN (power) "Supply voltage for control circuitry. Connect to same source as PVIN.", 11 PVIN (power) "Supply voltage for power stage. Connect to same source as AVIN", 12 PVIN (power) "Supply voltage for power stage. Connect to same source as AVIN", 13 EN (in) "Enable input (High = enabled, Low = disabled)", 14 VOS (in) "Output voltage sense pin and connection for the control loop circuitry.", 15 PGND (power) "Power ground", 16 PGND (power) "Power ground", 17 EP (power) "Must be connected to AGND. Must be soldered to achieve appropriate power dissipation and mechanical reliability"

## TPS62130RGTT
designator U?
Buck Step Down Regulator with 3 to 17 V Input and 0.9 to 6 V Output, -40 to 85 degC, 16-Pin QFN (RGT), Green (RoHS & no Sb/Br); Manufacturer: Texas Instruments; PartNumber: TPS62130RGTT; Duty Cycle(Max)(%): 100; Iout(Max)(A): 3; Iq(Typ)(mA): 0.017; Rating: Catalog; Regulated Outputs(#): 1; SubFamily: Step-Down Regulator; Switch Current Limit(Typ)(A): 4.2; Synchronous Rectification: TRUE; Vin(Max)(V): 17; Vout(Max)(V): 6; Vout(Min)(V): 0.9; DatasheetVersion: SLVSAG7; PackageVersion: revH, Oct-2011; PackageReference: RGT16-1700X1700TP; PackageDescription: 16-Pin Plastic Quad Flat No-Lead, 3 x 3 mm Body, 0.5 mm Pitch, 1.7 x 1.7 mm Exposed Pad; Supplier 1: Digi-Key; Supplier Part Number 1: 296-29934-2-ND; Supplier 2: Digi-Key; Supplier Part Number 2: 296-29934-1-ND; Supplier 3: Digi-Key; Supplier Part Number 3: 296-29934-6-ND; Supplier 4: Newark; Supplier Part Number 4: 74T5527; Supplier 5: Mouser; Supplier Part Number 5: 595-TPS62130RGTT; Eco-Plan: Green (RoHS & no Sb/Br); Topology: Buck; Vin(Min)(V): 3; Mounting Technology: Surface Mount; Code_JEDEC: MO-220; ComponentLink1Description: Datasheet; ComponentLink1URL: http://www.ti.com/general/docs/lit/getliterature.tsp?genericPartNumber=TPS62130&fileType=pdf; ComponentLink2Description: Package Specification; ComponentLink2URL: http://www.ti.com/litv/pdf/mpqf119g; ComponentLink3Description: URL Link1; ComponentLink3URL: Samples URL:http://www.ti.com/product/tps54611#samples
footprint RGT16-1700X1700TP (QFN, 16-Leads, Body 3x3mm, Pitch 0.5mm, Thermal Pad 1.7x1.7mm, TI Recommended)
pins: 1 SW (power) "Switch node, which is connected to the internal MOSFET switches. Connect inductor between SW and output capacitor", 2 SW (power) "Switch node, which is connected to the internal MOSFET switches. Connect inductor between SW and output capacitor", 3 SW (power) "Switch node, which is connected to the internal MOSFET switches. Connect inductor between SW and output capacitor", 4 PG (hiz) "Output power good (High = VOUT ready, Low = VOUT below nominal regulation) ; open drain (requires pull-up resistor; goes high impedance, when device is switched off)", 5 FB (in) "Voltage feedback of adjustable version. Connect resistive voltage divider to this pin. It is recommended to connect FB to AGND on fixed output voltage versions for improved thermal performance", 6 AGND (power) "Analog Ground", 7 FSW (in) "Switching Frequency Select (Low ˜ 2.5MHz, High ˜ 1.25MHz for typical operation)", 8 DEF (in) "Output Voltage Scaling (Low = nominal, High = nominal + 5%)", 9 SS/TR (in) "Soft-Start/Tracking Pin .An external capacitor connected to this pin sets the internal voltage reference rise time .It can be used for tracking and sequencing.", 10 AVIN (power) "Supply voltage for control circuitry. Connect to same source as PVIN.", 11 PVIN (power) "Supply voltage for power stage. Connect to same source as AVIN", 12 PVIN (power) "Supply voltage for power stage. Connect to same source as AVIN", 13 EN (in) "Enable input (High = enabled, Low = disabled)", 14 VOS (in) "Output voltage sense pin and connection for the control loop circuitry.", 15 PGND (power) "Power ground", 16 PGND (power) "Power ground", 17 EP (power) "Must be connected to AGND. Must be soldered to achieve appropriate power dissipation and mechanical reliability"